# Altium footprint library LR1121EVM.PcbLib: 28 footprints (part 1 of 2)
Each footprint in its own frame and in the unit in brackets; x right, y up, seen from the top. Pads: shape width x height; smd on the part's side, far side on the other; paste and mask are expansions set on the pad; w line width, h text height; cw(c..) or ccw(c..) is an arc to the next point about the centre after c.
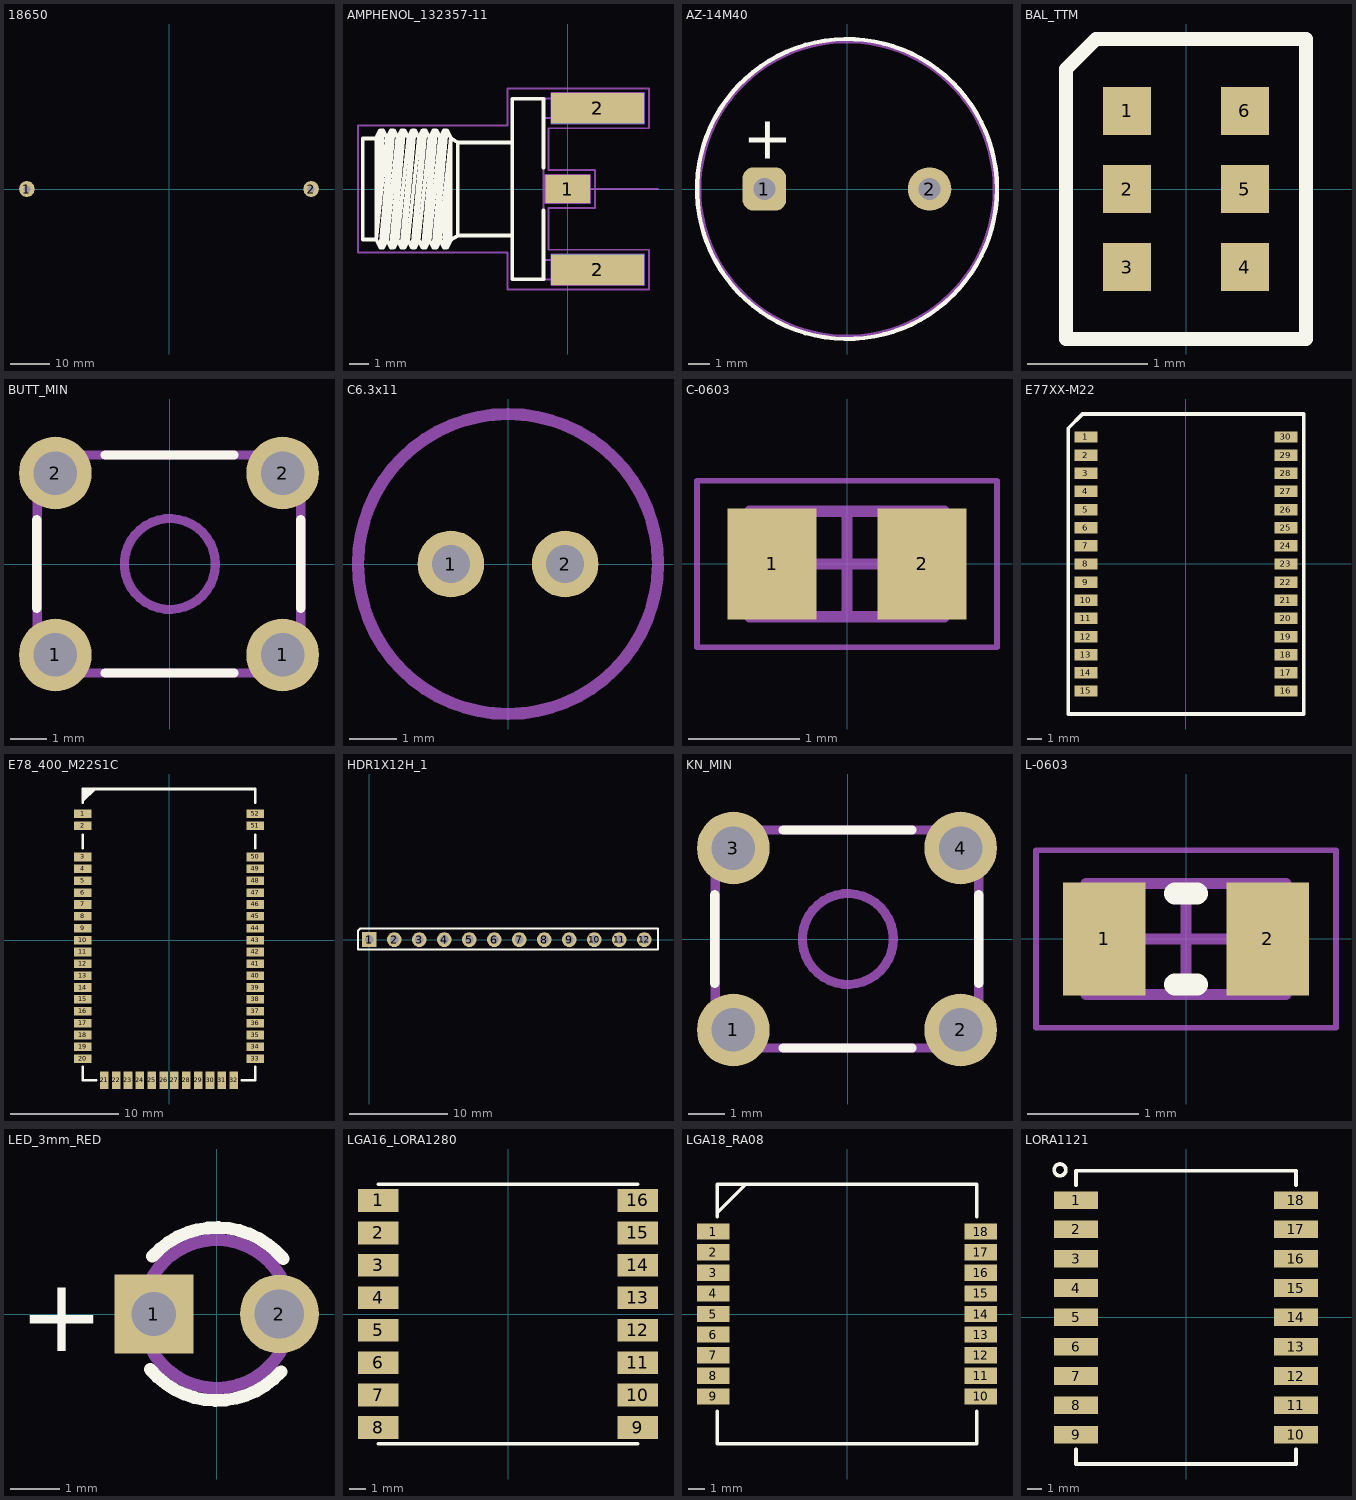
[diagram p0: the footprints below, top view; thin cyan lines are the x and y axes]

## 18650 [mm]
pads (2):
  round 4 hole 1.8: 1(-36,0) 2(36,0)
3D body "18650 Single Cell Holder.STEP": height 21, standoff 0, extent -37.5,-10.5 37.5,10.5

## AMPHENOL_132357-11 [mm] "SMA End Launch Jack for 1.58mm PCB, 50 Ohm, Flat Tab Contact"
height 7.92
pads (5):
  rect 2.35x1.5 smd: 1(0,0)
  rect 4.9x1.6 smd far side: 2(1.575,-4.25) 2(1.575,4.25)
  rect 4.9x1.6 smd: 2(1.575,-4.25) 2(1.575,4.25)
Top Overlay:
  lines w0.2: -10.09,2.665 -10.805,2.665 -10.805,-2.665 -10.09,-2.665 ; -6.17,-2.665 -5.795,-2.453 ; -2.925,-2.453 -5.795,-2.453 ; -2.925,2.447 -5.795,2.447 ; -1.275,-1.137 -1.275,-4.76 -2.925,-4.76 -2.925,4.76 -1.275,4.76 -1.275,1.137 ; -10.09,-2.665 -10.09,2.715 -9.879,3.094 ; -10.09,-2.665 -9.879,-3.094 ; -10.09,-2.665 -9.53,2.715 ; -10.09,-2.665 -9.741,3.094 ; -10.09,-2.665 -9.879,3.094 ; -9.879,-3.094 -9.741,-3.094 ; -9.879,-3.094 -9.319,3.094 ; -9.879,3.094 -9.741,3.094 ; -9.741,-3.094 -9.53,-2.715 ; -9.741,-3.094 -9.181,3.094 ; -9.741,3.094 -9.53,2.715 ; -9.53,-2.715 -9.319,-3.094 ; -9.53,-2.715 -8.97,2.715 ; -9.53,2.715 -9.319,3.094 ; -9.319,-3.094 -9.181,-3.094 ; -9.319,-3.094 -8.759,3.094 ; -9.319,3.094 -9.181,3.094 ; -9.181,-3.094 -8.97,-2.715 ; -9.181,-3.094 -8.621,3.094 ; -9.181,3.094 -8.97,2.715 ; -8.97,-2.715 -8.759,-3.094 ; -8.97,-2.715 -8.41,2.715 ; -8.97,2.715 -8.759,3.094 ; -8.759,-3.094 -8.621,-3.094 ; -8.759,-3.094 -8.199,3.094 ; -8.759,3.094 -8.621,3.094 ; -8.621,-3.094 -8.41,-2.715 ; -8.621,-3.094 -8.061,3.094 ; -8.621,3.094 -8.41,2.715 ; -8.41,-2.715 -8.199,-3.094 ; -8.41,-2.715 -7.85,2.715 ; -8.41,2.715 -8.199,3.094 ; -8.199,-3.094 -8.061,-3.094 ; -8.199,-3.094 -7.639,3.094 ; -8.199,3.094 -8.061,3.094 ; -8.061,-3.094 -7.85,-2.715 ; -8.061,-3.094 -7.501,3.094 ; -8.061,3.094 -7.85,2.715 ; -7.85,-2.715 -7.639,-3.094 ; -7.85,-2.715 -7.29,2.715 ; -7.85,2.715 -7.639,3.094 ; -7.639,-3.094 -7.501,-3.094 ; -7.639,-3.094 -7.079,3.094 ; -7.639,3.094 -7.501,3.094 ; -7.501,-3.094 -7.29,-2.715 ; -7.501,-3.094 -6.941,3.094 ; -7.501,3.094 -7.29,2.715 ; -7.29,-2.715 -7.079,-3.094 ; -7.29,-2.715 -6.73,2.715 ; -7.29,2.715 -7.079,3.094 ; -7.079,-3.094 -6.941,-3.094 ; -7.079,-3.094 -6.519,3.094 ; -7.079,3.094 -6.941,3.094 ; -6.941,-3.094 -6.73,-2.715 ; -6.941,-3.094 -6.381,3.094 ; -6.941,3.094 -6.73,2.715 ; -6.73,-2.715 -6.519,-3.094 ; -6.73,-2.715 -6.17,2.713 ; -6.73,2.715 -6.519,3.094 ; -6.519,-3.094 -6.381,-3.094 ; -6.519,-3.094 -6.17,2.713 ; -6.519,3.094 -6.381,3.094 ; -6.381,-3.094 -6.17,-2.715 -6.17,2.713 ; -6.381,-3.094 -6.17,2.665 -5.795,2.447 ; -6.381,3.094 -6.17,2.713 ; -5.795,-2.453 -5.795,2.447
Mechanical 8:
  lines w0.1: -0.5,0 0,0 ; 0,-0.5 0,0 ; 0,0.5 0,0 ; 0.5,0 0,0 ; 1.075,-4.25 1.575,-4.25 ; 1.075,4.25 1.575,4.25 ; 1.575,-4.75 1.575,-4.25 ; 1.575,-3.75 1.575,-4.25 ; 1.575,3.75 1.575,4.25 ; 1.575,4.75 1.575,4.25 ; 2.075,-4.25 1.575,-4.25 ; 2.075,4.25 1.575,4.25 ; -1.175,-0.75 -1.175,0.75 1.175,0.75 1.175,-0.75 -1.175,-0.75 ; -0.875,-5.05 4.025,-5.05 4.025,-3.45 -0.875,-3.45 -0.875,-5.05 ; -0.875,3.45 4.025,3.45 4.025,5.05 -0.875,5.05 -0.875,3.45
Mechanical 14:
  lines w0.1: -10.09,2.665 -10.805,2.665 -10.805,-2.665 -10.09,-2.665 ; -6.17,-2.665 -5.795,-2.453 ; -2.925,-2.453 -5.795,-2.453 ; -2.925,2.447 -5.795,2.447 ; -1.275,-4.76 -1.275,0 ; -1.275,-3.74 3.475,-3.74 3.475,-4.76 -2.925,-4.76 -2.925,4.76 3.475,4.76 3.475,3.74 -1.275,3.74 ; -1.275,-0.251 0.635,-0.251 0.635,0.251 -1.275,0.251 ; -1.275,4.76 -1.275,0 ; 4.75,0 -1.275,0 ; -10.09,-2.665 -10.09,2.715 -9.879,3.094 ; -10.09,-2.665 -9.879,-3.094 ; -10.09,-2.665 -9.53,2.715 ; -10.09,-2.665 -9.741,3.094 ; -10.09,-2.665 -9.879,3.094 ; -9.879,-3.094 -9.741,-3.094 ; -9.879,-3.094 -9.319,3.094 ; -9.879,3.094 -9.741,3.094 ; -9.741,-3.094 -9.53,-2.715 ; -9.741,-3.094 -9.181,3.094 ; -9.741,3.094 -9.53,2.715 ; -9.53,-2.715 -9.319,-3.094 ; -9.53,-2.715 -8.97,2.715 ; -9.53,2.715 -9.319,3.094 ; -9.319,-3.094 -9.181,-3.094 ; -9.319,-3.094 -8.759,3.094 ; -9.319,3.094 -9.181,3.094 ; -9.181,-3.094 -8.97,-2.715 ; -9.181,-3.094 -8.621,3.094 ; -9.181,3.094 -8.97,2.715 ; -8.97,-2.715 -8.759,-3.094 ; -8.97,-2.715 -8.41,2.715 ; -8.97,2.715 -8.759,3.094 ; -8.759,-3.094 -8.621,-3.094 ; -8.759,-3.094 -8.199,3.094 ; -8.759,3.094 -8.621,3.094 ; -8.621,-3.094 -8.41,-2.715 ; -8.621,-3.094 -8.061,3.094 ; -8.621,3.094 -8.41,2.715 ; -8.41,-2.715 -8.199,-3.094 ; -8.41,-2.715 -7.85,2.715 ; -8.41,2.715 -8.199,3.094 ; -8.199,-3.094 -8.061,-3.094 ; -8.199,-3.094 -7.639,3.094 ; -8.199,3.094 -8.061,3.094 ; -8.061,-3.094 -7.85,-2.715 ; -8.061,-3.094 -7.501,3.094 ; -8.061,3.094 -7.85,2.715 ; -7.85,-2.715 -7.639,-3.094 ; -7.85,-2.715 -7.29,2.715 ; -7.85,2.715 -7.639,3.094 ; -7.639,-3.094 -7.501,-3.094 ; -7.639,-3.094 -7.079,3.094 ; -7.639,3.094 -7.501,3.094 ; -7.501,-3.094 -7.29,-2.715 ; -7.501,-3.094 -6.941,3.094 ; -7.501,3.094 -7.29,2.715 ; -7.29,-2.715 -7.079,-3.094 ; -7.29,-2.715 -6.73,2.715 ; -7.29,2.715 -7.079,3.094 ; -7.079,-3.094 -6.941,-3.094 ; -7.079,-3.094 -6.519,3.094 ; -7.079,3.094 -6.941,3.094 ; -6.941,-3.094 -6.73,-2.715 ; -6.941,-3.094 -6.381,3.094 ; -6.941,3.094 -6.73,2.715 ; -6.73,-2.715 -6.519,-3.094 ; -6.73,-2.715 -6.17,2.713 ; -6.73,2.715 -6.519,3.094 ; -6.519,-3.094 -6.381,-3.094 ; -6.519,-3.094 -6.17,2.713 ; -6.519,3.094 -6.381,3.094 ; -6.381,-3.094 -6.17,-2.715 -6.17,2.713 ; -6.381,-3.094 -6.17,2.665 -5.795,2.447 ; -6.381,3.094 -6.17,2.713 ; -5.795,-2.453 -5.795,2.447
Mechanical 15:
  lines w0.1: -11.055,-3.344 -3.175,-3.344 -3.175,-5.3 4.275,-5.3 4.275,-3.2 -1.025,-3.2 -1.025,-1 1.425,-1 1.425,1 -1.025,1 -1.025,3.2 4.275,3.2 4.275,5.3 -3.175,5.3 -3.175,3.344 -11.055,3.344 -11.055,-3.344
3D body "AMPHENOL_132357-11.stp": height 4.08, standoff -3.84, extent -10.805,-4.76 3.475,4.76

## AZ-14M40 [mm]
pads (2):
  rrect50% 2x2 hole 1: 1(-3.8,0)
  round 2 hole 1: 2(3.8,0)
Top Overlay:
  circle w0.2: c0,0 r6.9
  text "+" at -4.8,3.1 h2
Mechanical 7:
  circle w0.2: c0,0 r6.8
  text "BUZZER" at -2.25,-2.5 h0.9
  text "+" at -6.225,0.475 h0.9
3D body "BUZZER.STEP": height 6.9, standoff -6.7, extent -6.891,-6.899 6.886,6.901

## BAL_TTM [mm]
pads (6):
  rect 0.4x0.4 smd: 1(-0.49,0.65) 2(-0.49,0) 3(-0.49,-0.65) 4(0.49,-0.65) 5(0.49,0) 6(0.49,0.65)
Top Overlay:
  lines w0.12: -1,-1.25 -1,1 -0.75,1.25 1,1.25 1,-1.25 -1,-1.25
3D body: height 0.8, standoff 0, extent -0.75,-1 0.75,1

## BUTT_MIN [mm]
pads (4):
  round 2 hole 1.2 mask+0.05: 1(-3.15,-2.5) 1(3.1,-2.5) 2(-3.15,2.5) 2(3.1,2.5)
Top Overlay:
  lines w0.254: -3.66,-1.22 -3.66,1.22 ; -1.78,-3 1.76,-3 ; -1.78,3 1.76,3 ; 3.6,-1.22 3.6,1.22
Mechanical 7:
  circle w0.254: c0,0 r1.25
  lines w0.254: -3.65,-3 3.6,-3 3.6,3 -3.65,3 -3.65,-3
3D body "User Library-SWT-2.STEP": height 7.01, standoff -3.49, extent -3.95,-3.1 3.95,3.1

## C6.3x11 [mm]
pads (2):
  round 1.4 hole 0.8: 1(-1.2,0) 2(1.2,0)
Bottom Overlay:
  lines w0.254: -2.877,1.207 cw(c0,0) 2.885,1.19
  text "+" at -2.025,-1.025 h1.25
Mechanical 7:
  circle w0.254: c0,0 r3.15
3D body "Nichicon MUSE 6,3x11.step": height 11.3, standoff -19, extent -3.15,-3.15 3.15,3.15

## C-0603 [mm] "Chip Capacitor, 2-Leads, Body 1,60x0,80mm, IPC Medium Density"
height 0.85
pads (2):
  rect 0.8x1 smd: 1(-0.675,0) 2(0.675,0)
Mechanical 13:
  lines w0.1: -0.875,-0.475 -0.875,0.475 0.875,0.475 0.875,-0.475 -0.875,-0.475
Mechanical 15:
  lines w0.05: -1.35,-0.75 -1.35,0.75 1.35,0.75 1.35,-0.75 -1.35,-0.75
  lines w0.1: -0.475,0 0.475,0 ; 0,-0.475 0,0.475
3D body "C_0603_1608Metric.step": height 0.8, standoff 0, extent -0.8,-0.4 0.8,0.4

## E77XX-M22 [mm]
pads (30):
  rect 1.6x0.8 smd: 1(-7,8.89) 2(-7,7.62) 3(-7,6.35) 4(-7,5.08) 5(-7,3.81) 6(-7,2.54) 7(-7,1.27) 8(-7,0) 9(-7,-1.27) 10(-7,-2.54) 11(-7,-3.81) 12(-7,-5.08) 13(-7,-6.35) 14(-7,-7.62) 15(-7,-8.89) 16(7,-8.89) 17(7,-7.62) 18(7,-6.35) 19(7,-5.08) 20(7,-3.81) 21(7,-2.54) 22(7,-1.27) 23(7,0) 24(7,1.27) 25(7,2.54) 26(7,3.81) 27(7,5.08) 28(7,6.35) 29(7,7.62) 30(7,8.89)
Top Overlay:
  lines w0.254: -8.25,-10.5 -8.25,9.25 -8.25,9.5 -7.25,10.5 8.25,10.5 8.25,-10.5 -8.25,-10.5
3D body "E77-400M22S.STEP": height 2.7, standoff -0.01, extent -7,-9.68 7,10.3

## E78_400_M22S1C [mm]
pads (52):
  rect 1.6x0.8 smd: 1(-8,11.7) 2(-8,10.6) 3(-8,7.7) 4(-8,6.6) 5(-8,5.5) 6(-8,4.4) 7(-8,3.3) 8(-8,2.2) 9(-8,1.1) 10(-8,0) 11(-8,-1.1) 12(-8,-2.2) 13(-8,-3.3) 14(-8,-4.4) 15(-8,-5.5) 16(-8,-6.6) 17(-8,-7.7) 18(-8,-8.8) 19(-8,-9.9) 20(-8,-11) 33(8,-11) 34(8,-9.9) 35(8,-8.8) 36(8,-7.7) 37(8,-6.6) 38(8,-5.5) 39(8,-4.4) 40(8,-3.3) 41(8,-2.2) 42(8,-1.1) 43(8,0) 44(8,1.1) 45(8,2.2) 46(8,3.3) 47(8,4.4) 48(8,5.5) 49(8,6.6) 50(8,7.7) 51(8,10.6) 52(8,11.7)
  rect 0.8x1.6 smd: 21(-6,-13) 22(-4.9,-13) 23(-3.8,-13) 24(-2.7,-13) 25(-1.6,-13) 26(-0.5,-13) 27(0.5,-13) 28(1.6,-13) 29(2.7,-13) 30(3.8,-13) 31(4.9,-13) 32(6,-13)
Top Overlay:
  region: -8,12.75 -8,14 -6.75,14
  lines w0.254: -8,-11.75 -8,-13 -6.75,-13 ; -8,8.5 -8,9.75 ; -8,12.75 -8,14 8,14 8,12.75 ; 6.75,-13 8,-13 8,-11.75 ; 8,8.5 8,9.75
3D body: height 2.8, standoff 0, extent -8,-13 8,13

## HDR1X12H_1 [mm] "Connector; Header; 12 Position; Right Angle"
pads (12):
  rect 1.5x1.5 hole 0.9: 1(0,0)
  round 1.5 hole 0.9: 2(2.54,0) 3(5.08,0) 4(7.62,0) 5(10.16,0) 6(12.7,0) 7(15.24,0) 8(17.78,0) 9(20.32,0) 10(22.86,0) 11(25.4,0) 12(27.94,0)
Top Overlay:
  lines w0.2: -1.143,-1.016 29.337,-1.016 29.337,1.143 -0.889,1.143 -1.143,0.889 -1.143,-1.016
3D body "PinHeader_1x12_P2.54mm_Horizontal.step": height 2.54, standoff -3, extent -1.27,-10.04 29.21,0.32

## KN_MIN [mm]
pads (4):
  round 2 hole 1.2 mask+0.05: 1(-3.15,-2.5) 2(3.1,-2.5) 3(-3.15,2.5) 4(3.1,2.5)
Top Overlay:
  lines w0.254: -3.66,-1.22 -3.66,1.22 ; -1.78,-3 1.76,-3 ; -1.78,3 1.76,3 ; 3.6,-1.22 3.6,1.22
Mechanical 7:
  circle w0.254: c0,0 r1.25
  lines w0.254: -3.65,-3 -3.65,3 3.6,3 3.6,-3 -3.65,-3
3D body "User Library-SWT-2.STEP": height 7.01, standoff -3.49, extent -3.95,-3.1 3.95,3.1

## L-0603 [mm] "Chip Inductor, 2-Leads, Body 1,60x0,80mm, IPC Medium Density"
height 1
pads (2):
  rect 0.74x1.02 smd: 1(-0.735,0) 2(0.735,0)
Top Overlay:
  lines w0.2: -0.1,-0.41 0.1,-0.41 ; -0.1,0.41 0.1,0.41
Mechanical 13:
  lines w0.1: -0.9,-0.5 -0.9,0.5 0.9,0.5 0.9,-0.5 -0.9,-0.5
Mechanical 15:
  lines w0.05: -1.35,-0.8 -1.35,0.8 1.35,0.8 1.35,-0.8 -1.35,-0.8
  lines w0.1: -0.5,0 0.5,0 ; 0,-0.5 0,0.5
3D body "INDC1608X10N.step": height 1, standoff 0, extent -0.9,-0.5 0.9,0.5

## LED_3mm_RED [mm]
height 1
pads (2):
  rect 1.6x1.6 hole 0.9: 1(-1.27,0)
  round 1.6 hole 1: 2(1.27,0)
Top Overlay:
  lines w0.254: -1.345,-1.12 ccw(c0,0) 1.303,-1.168 ; -1.303,1.168 cw(c0,0) 1.344,1.12
  text "+" at -4,-0.75 h1.5
Mechanical 5:
  lines w0.254: -1.026,1.095 ccw(c0,0) -0.937,1.171
3D body "CircuitWorks-LED DIP 3MM.step": height 5.75, standoff -2.75, extent -1.9,-1.9 1.6,1.9

## LGA16_LORA1280 [mm]
pads (16):
  rect 2.5x1.4 smd: 1(-8,7) 2(-8,5) 3(-8,3) 4(-8,1) 5(-8,-1) 6(-8,-3) 7(-8,-5) 8(-8,-7) 9(8,-7) 10(8,-5) 11(8,-3) 12(8,-1) 13(8,1) 14(8,3) 15(8,5) 16(8,7)
Top Overlay:
  lines w0.2: -8,-8 8,-8 ; -8,8 8,8
3D body: height 1.5, standoff 0, extent -7.5,-7.514 7.5,7.514

## LGA18_RA08 [mm]
pads (18):
  rect 2x1 smd: 1(-8.25,5.08) 2(-8.25,3.81) 3(-8.25,2.54) 4(-8.25,1.27) 5(-8.25,0) 6(-8.25,-1.27) 7(-8.25,-2.54) 8(-8.25,-3.81) 9(-8.25,-5.08) 10(8.25,-5.08) 11(8.25,-3.81) 12(8.25,-2.54) 13(8.25,-1.27) 14(8.25,0) 15(8.25,1.27) 16(8.25,2.54) 17(8.25,3.81) 18(8.25,5.08)
Top Overlay:
  lines w0.2: -8,-6 -8,-8 8,-8 8,-6 ; -8,6 -8,8 8,8 8,6 ; -8,6.25 -6.25,8
3D body: height 1.5, standoff 0, extent -7.5,-7.5 7.5,7.528

## LORA1121 [mm]
pads (18):
  rect 3x1.2 smd: 1(-7.5,8) 2(-7.5,6) 3(-7.5,4) 4(-7.5,2) 5(-7.5,0) 6(-7.5,-2) 7(-7.5,-4) 8(-7.5,-6) 9(-7.5,-8) 10(7.5,-8) 11(7.5,-6) 12(7.5,-4) 13(7.5,-2) 14(7.5,0) 15(7.5,2) 16(7.5,4) 17(7.5,6) 18(7.5,8)
Top Overlay:
  circle w0.254: c-8.593,10.057 r0.402
  lines w0.25: -7.5,-9 -7.5,-10 7.5,-10 7.5,-9 ; -7.5,9 -7.5,10 7.5,10 7.5,9
3D body: height 2, standoff 0, extent -7.5,-10 7.5,10